# EAGLE library part ACS711 (library PEGMA)
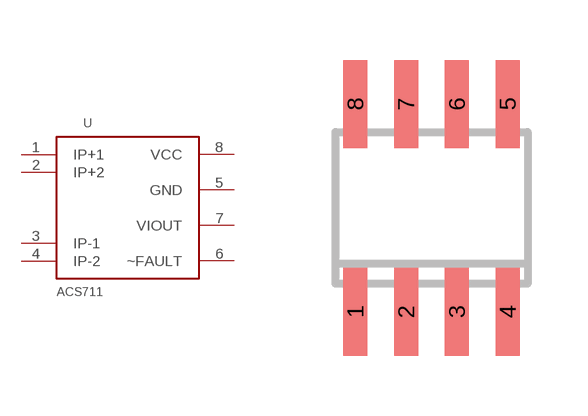
[diagram p1: symbol with the pads of SO-08; footprint SO-08]

Designator prefix -

## ACS711  [SO-08]
1  IP+1
2  IP+2
3  IP-1
4  IP-2
5  GND
6  ~FAULT
7  VIOUT
8  VCC

## Footprint SO-08 (pad centres in mm)
Small Outline Narrow Plastic Gull Wing 150-mil body, package type SN
smd 0.6 x 2.2: 1 -1.905,-2.6; 2 -0.635,-2.6; 3 0.635,-2.6; 4 1.905,-2.6; 5 1.905,2.6; 6 0.635,2.6; 7 -0.635,2.6; 8 -1.905,2.6